# EAGLE library part RF_RELAY (library HAB)
RF Relay RF Relay, Panasonic ARE10xx/ARE13xx series
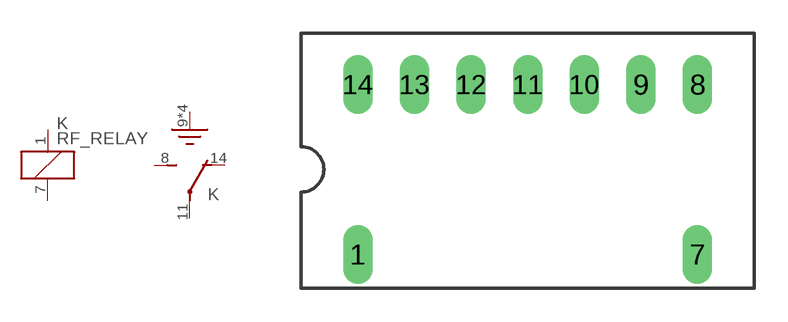
[diagram p8: symbol with the pads of RFDIL14; footprint RFDIL14]

Designator prefix K; gates G$1=RELAY_COIL G$2=RELAY_SW

## RF_RELAY  [RFDIL14]
1  G$1:1  pas
7  G$1:2  pas
8  G$2:S  pas
9  G$2:GND  pwr
10  G$2:GND  pwr
11  G$2:P  pas
12  G$2:GND  pwr
13  G$2:GND  pwr
14  G$2:O  pas

## Footprint RFDIL14 (pad centres in mm)
RF Relay 14-pin DIP 14-pin package for RF relay
drill 0.813 long: 1 -7.62,-3.81; 7 7.62,-3.81; 8 7.62,3.81; 9 5.08,3.81; 10 2.54,3.81; 11 0,3.81; 12 -2.54,3.81; 13 -5.08,3.81; 14 -7.62,3.81